# Altium schematic symbol library UES1H100MPM1TD.SchLib: 1 symbol
Pins are listed as number, name and electrical type; pins without a type are passive.

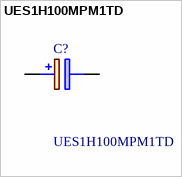
[diagram p0: symbol UES1H100MPM1TD]

## UES1H100MPM1TD
designator C?
Aluminum Electrolytic Capacitors - Radial Leaded 10uF 50 Volts 20%; Manufacturer_Name: Nichicon; Geometry.Height: 13mm; Mouser Part Number: 647-UES1H100MPM1TD; Mouser Price/Stock: https://www.mouser.co.uk/ProductDetail/Nichicon/UES1H100MPM1TD?qs=WJSLByB5Mu08yl%252B5YJ7rqQ%3D%3D; Manufacturer_Part_Number: UES1H100MPM1TD; Datasheet Link: https://www.nichicon.co.jp/english/series_items/catalog_pdf/e-ues.pdf
footprint CAPPRD350W60D825H1300
pins: 1 +, 2 -